# Altium schematic symbol library SWITCH.SchLib: 25 symbols
Pins are listed as number, name and electrical type; pins without a type are passive.

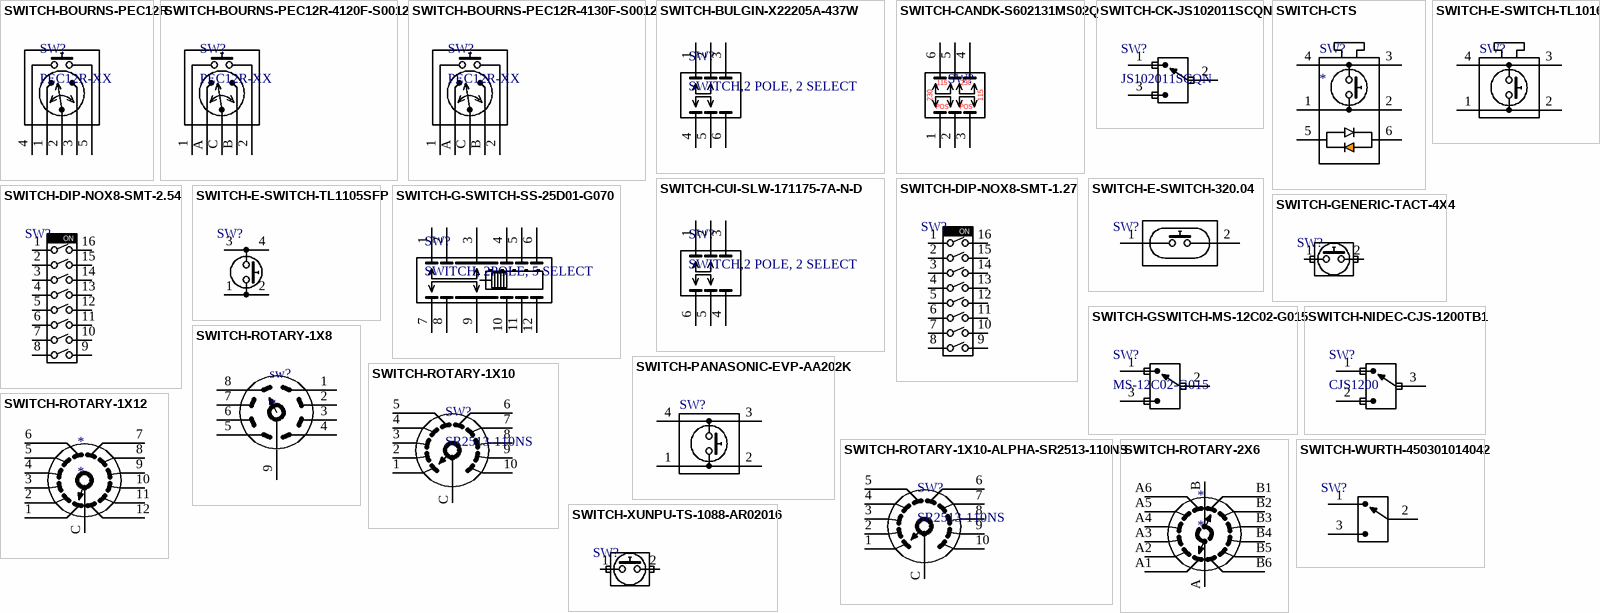
[diagram p0: symbols SWITCH-BOURNS-PEC12R to SWITCH-XUNPU-TS-1088-AR02016]

## SWITCH-BOURNS-PEC12R
designator SW?, comment PEC12R-XX
SWITCH,ENCODER+CLICK
pins: 1, 2, 3, 4, 5

## SWITCH-BOURNS-PEC12R-4120F-S0012
designator SW?, comment PEC12R-XX
SWITCH,ENCODER+CLICK,12 DETENTS,20mm,BOURNS,PEC12R-4120F-S0012; Manufacturer 1: BOURNS; Manufacturer Part Number 1: PEC12R-4120F-S0012
footprint SWITCH-BOURNS-PEC12R-4120F-S0012 (SWITCH,ROTATRY+CLICK,20MM AXLE)
pins: 1, 2, A, B, C

## SWITCH-BOURNS-PEC12R-4130F-S0012
designator SW?, comment PEC12R-XX
SWITCH,ENCODER+CLICK,12 DETENTS,30mm,BOURNS,PEC12R-4130F-S0012; LCSC: C143795; Manufacturer 1: BOURNS; Manufacturer Part Number 1: PEC12R-4130F-S0012
footprint SWITCH-BOURNS-PEC12R-4120F-S0012 (SWITCH,ROTATRY+CLICK,20MM AXLE)
pins: 1, 2, A, B, C

## SWITCH-BULGIN-X22205A-437W
designator SW?, comment SWITCH,2 POLE, 2 SELECT
SWITCH,DPDT,SLIDE,TH,250/115,BULGIN,X22205A-437W; DIGIKEY: X22205A-437W-ND; Manufacturer 1: BULGIN; Manufacturer Part Number 1: X22205A-437W
pins: 1, 2, 3, 4, 5, 6

## SWITCH-CANDK-S602131MS02Q
designator SW?, comment SWITCH,2 POLE, 2 SELECT  (value not drawn)
SWITCH,DPDT,SLIDE,TH,250/115,C&K,S602131MS02Q; Manufacturer Part Number 1: S202121MS02Q; DIGIKEY: CKC5115-ND OR CKN10661-ND; Manufacturer 1: C&K
footprint SWITCH-CANDK-S602131MS02Q
pins: 1, 2, 3, 4, 5, 6
text: 115; 230; POS

## SWITCH-CK-JS102011SCQN
designator SW?, comment JS102011SCQN
SWITCH,SPST,SLIDE,SMD; Manufacturer 1: C&K; LCSC: C2875122; Manufacturer Part Number 1: JS102011SCQN
footprint SWITCH-CK-JS102011SCQN
pins: 1, 2, 3

## SWITCH-CTS
designator SW?
footprint SWITCH-ESWITCH-TL1016
pins: 1, 2, 3, 4, 5, 6

## SWITCH-CUI-SLW-171175-7A-N-D
designator SW?, comment SWITCH,2 POLE, 2 SELECT
SWITCH,DPDT,SLIDE; Manufacturer 1: SAME SKY; Manufacturer Part Number 1: SLW-171175-7A-N-D; DIGIKEY: 2223-SLW-171175-7A-N-D-ND
pins: 1, 2, 3, 4, 5, 6

## SWITCH-DIP-NOX8-SMT-1.27
designator SW?  (value not drawn)
SWITCH,DIP,NOX8,SMD,1.27; Manufacturer 1: VARIOUS; Manufacturer Part Number 1: TL1105SPF160Q; LCSC: C25503175
pins: 1, 2, 3, 4, 5, 6, 7, 8, 9, 10, 11, 12, 13, 14, 15, 16
text: ON

## SWITCH-DIP-NOX8-SMT-2.54
designator SW?  (value not drawn)
SWITCH,DIP,NOX8,SMD,2.54; Manufacturer 1: HanElectricity; Manufacturer Part Number 1: HY-DSIC08LS; LCSC: C319032
footprint SWITCH-CTS-219-8MST
pins: 1, 2, 3, 4, 5, 6, 7, 8, 9, 10, 11, 12, 13, 14, 15, 16
text: ON

## SWITCH-E-SWITCH-320.04
designator SW?, comment 320.04  (value not drawn)
SWITCH,TACT,SMD,2PIN,OBLONG CAP,GREY; Manufacturer 1: E-SWITCH; Manufacturer Part Number 1: 320.04E11GRYVERT; DIGIKEY: EG5799-ND
pins: 1, 2

## SWITCH-E-SWITCH-TL1016
designator SW?  (value not drawn)
SWITCH,TACT,SMD,4PIN,2.9X3.5,4PIN,SIDE ACTUATOR; Supplier 1: Digikey; Supplier Part Number 1: 141-TL1016AAF160QGCT-ND; LCSC: C483790
footprint SWITCH-ESWITCH-TL1016
pins: 1, 2, 3, 4

## SWITCH-E-SWITCH-TL1105SFP
designator SW?  (value not drawn)
SWITCH,TACT,SMD,4PIN,TH,160g TOP ACTUATOR FOR CAP,E-SWITCH,TL1105SPF160; Manufacturer Part Number 1: TL1105SPF160Q; DIGIKEY: EG1861-ND; Manufacturer 1: E-SWITCH
footprint SWITCH-ESWITCH-TL1105SPF-1RCAP (SWTICH,TACT,MOM,WITH 1R CAP,E-SWITCH TL1105SP)
pins: 1, 2, 3, 4

## SWITCH-G-SWITCH-SS-25D01-G070
designator SW?, comment SWITCH, 2POLE, 5 SELECT
SWITCH,DP5T,SLIDE
pins: 1, 2, 3, 4, 5, 6, 7, 8, 9, 10, 11, 12

## SWITCH-GENERIC-TACT-4X4
designator SW?  (value not drawn)
SWITCH,TACT,SMD,2PIN,SMT,TOP ACTUATOR; Manufacturer 1: VARIOUS; Manufacturer Part Number 1: TL1105SPF160Q; LCSC: C49234124
footprint SWITCH-ESWITCH-TL1105SPF-1RCAP (SWTICH,TACT,MOM,WITH 1R CAP,E-SWITCH TL1105SP)
pins: 1, 2

## SWITCH-GSWITCH-MS-12C02-G015
designator SW?, comment MS-12C02-G015
SWITCH,SPST,SLIDE,SMD; Manufacturer 1: G-SWITCH; LCSC: C2896618; Manufacturer Part Number 1: MS-12C02-G015
pins: 1, 2, 3

## SWITCH-NIDEC-CJS-1200TB1
designator SW?, comment CJS1200
SWITCH,SPST,SLIDE,SMD; Manufacturer 1: NIDEC; Manufacturer Part Number 1: CJS-1200TB1; DIGIKEY: 563-CJS-1200TB1CT-ND
footprint SWITCH-NIDEC-CJS-1200TB1
pins: 1, 2, 3

## SWITCH-PANASONIC-EVP-AA202K
designator SW?  (value not drawn)
SWITCH,TACT,SMD,4PIN,2.9X3.5,4PIN; Supplier 1: Mouser; Supplier Part Number 1: 667-EVP-AA202K; LCSC: C483888; DIGIKEY: EVP-AA202K; MOUSER: 667-EVP-AA202K
footprint SWITCH-PANASONIC-EVP-AA202K
pins: 1, 2, 3, 4

## SWITCH-ROTARY-1X8
designator sw?
SWITCH,2P8T,ROTARY,TH; Manufacturer 1: ADAFRUIT; Manufacturer Part Number 1: 2925; DIGIKEY: 1528-2925-ND
pins: 1, 2, 3, 4, 5, 6, 7, 8, 9 CLR

## SWITCH-ROTARY-1X10
designator SW?, comment SR2513-110NS
SWITCH,SP10T,ROTARY,TH,REAR MOUNT,ALPHA SR2512-XXX; Manufacturer 1: TAIWAN ALPHA; DIGIKEY: 5942-SR2513-110NS-ND; Manufacturer Part Number 1: SR2513-110NS
footprint SWITCH-ALPHA-SR2513F-0110
pins: 1, 2, 3, 4, 5, 6, 7, 8, 9, 10, C

## SWITCH-ROTARY-1X10-ALPHA-SR2513-110NS
designator SW?, comment SR2513-110NS
SWITCH,SP10T,ROTARY,TH,REAR MOUNT,ALPHA SR2512-XXX; Manufacturer 1: TAIWAN ALPHA; DIGIKEY: 5942-SR2513-110NS-ND; Manufacturer Part Number 1: SR2513-110NS
footprint SWITCH-ALPHA-SR2513F-0110
pins: 1, 2, 3, 4, 5, 6, 7, 8, 9, 10, C

## SWITCH-ROTARY-1X12
designator *
SWITCH,SP12T,ROTARY,TH
pins: 1, 2, 3, 4, 5, 6, 7, 8, 9, 10, 11, 12, C

## SWITCH-ROTARY-2X6
designator *
SWITCH,DP6T,ROTARY,TH
pins: A, A1, A2, A3, A4, A5, A6, B, B1 1, B2 2, B3 3, B4 4, B5 5, B6 6

## SWITCH-WURTH-450301014042
designator SW?  (value not drawn)
SWITCH,SPDT,SLIDE,2.45MM,WURTH-450301014042; Manufacturer 1: SM SWITCH; Manufacturer Part Number 1: BSI-10; LCSC: C2985934
footprint SWITCH-WURTH-450301014042
pins: 1, 2, 3

## SWITCH-XUNPU-TS-1088-AR02016
designator SW?  (value not drawn)
SWITCH,TACT,SMD,2PIN,SMT,TOP ACTUATOR; Manufacturer 1: XUNPU; Manufacturer Part Number 1: TS-1088-AR02016; LCSC: C720477
footprint SWITCH-XUNPU-TS-1088-AR02016 (LCSC C720477)
pins: 1, 2